# Altium footprint library BV100011_UniversalSlave.PcbLib: 72 footprints (part 2 of 5)
Each footprint in its own frame and in the unit in brackets; x right, y up, seen from the top. Pads: shape width x height; smd on the part's side, far side on the other; paste and mask are expansions set on the pad; w line width, h text height; cw(c..) or ccw(c..) is an arc to the next point about the centre after c.
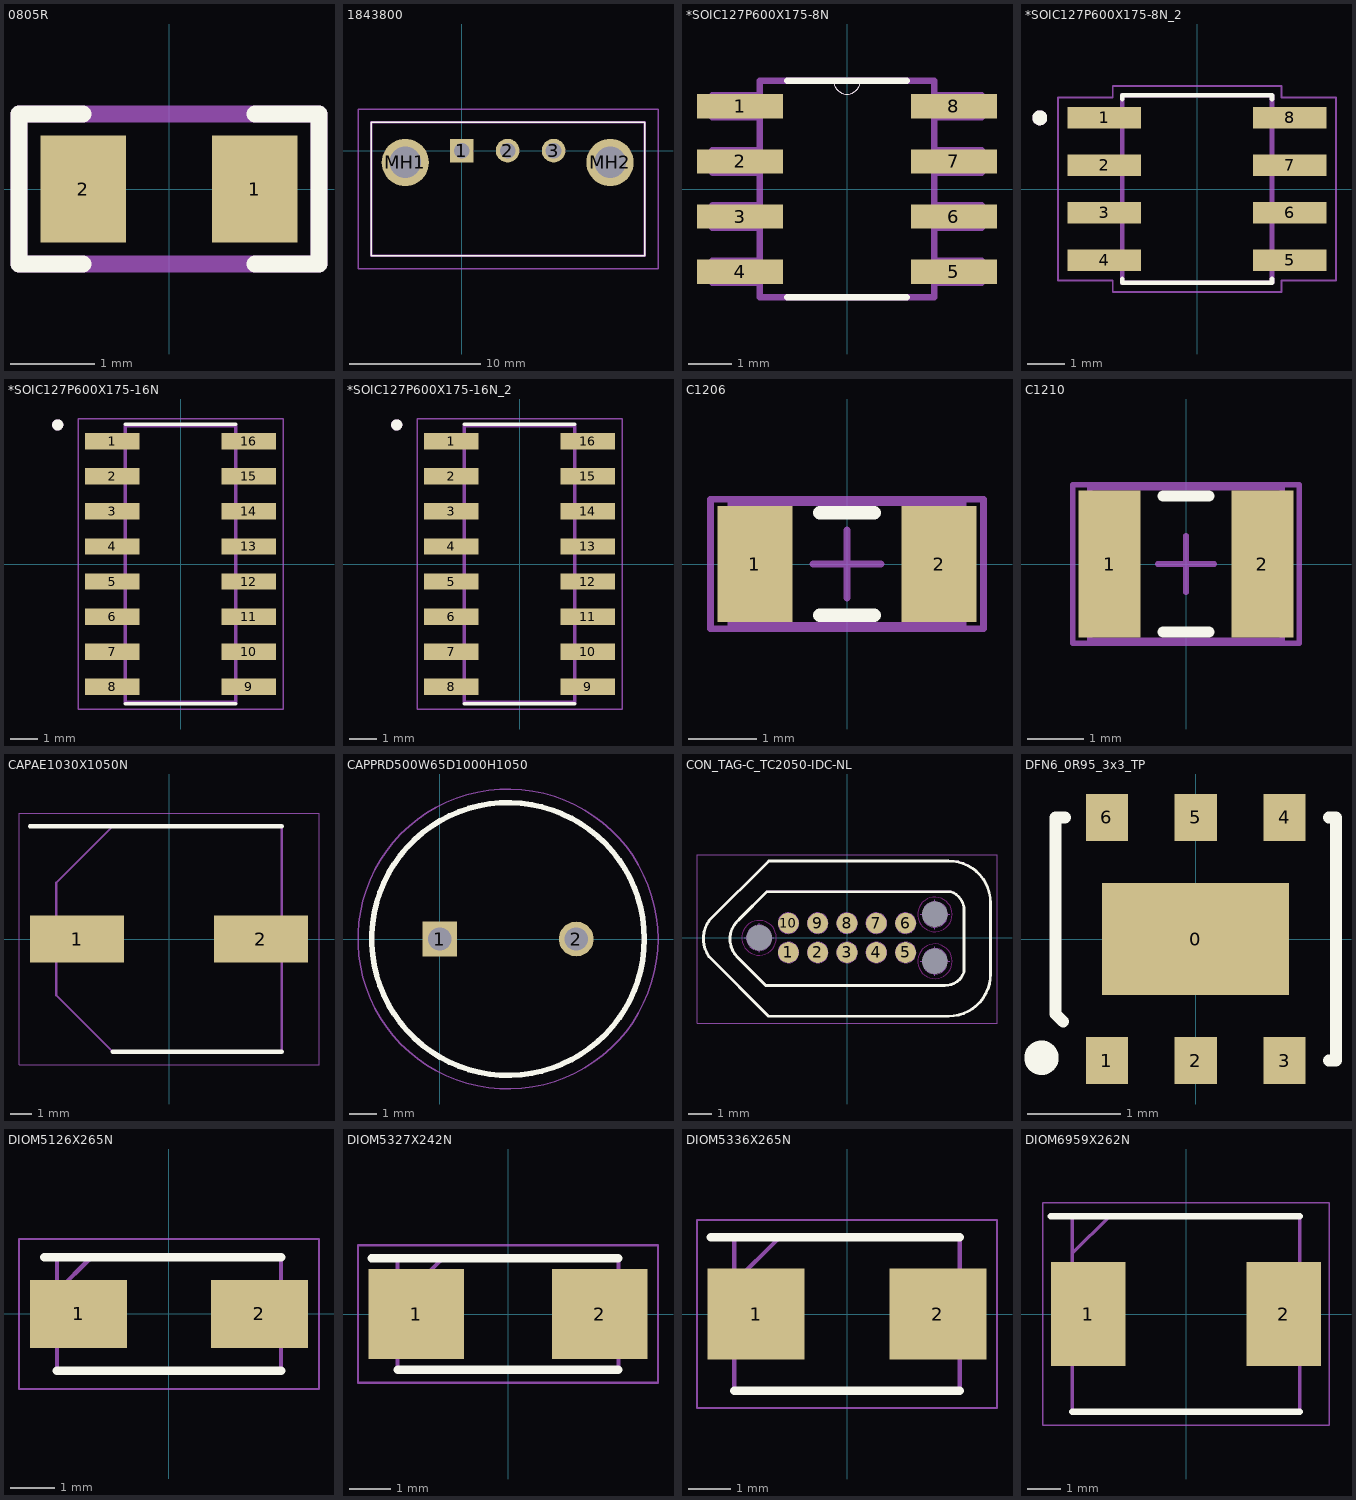
[diagram p1: the footprints below, top view; thin cyan lines are the x and y axes]

## 0805R [mil]
pads (2):
  rect 40x50 smd: 1(40,0) 2(-40,0)
Top Overlay:
  lines w7.87: -40,-35 -70,-35 -70,35 -40,35 ; 40,-35 70,-35 70,35 40,35
Mechanical 4:
  lines w7.87: -70,-35 70,-35 70,35 -70,35 -70,-35

## 1843800 [mm]
pads (5):
  rect 1.8x1.8 hole 1.2: 1(0,0)
  round 1.8 hole 1.2: 2(3.5,0) 3(7,0)
  round 3.6 hole 2.4: MH1(-4.3,-0.9) MH2(11.3,-0.9)
Top Overlay:
  lines w0.1: -6.9,-8 13.95,-8 13.95,2.16 -6.9,2.16 -6.9,-8
Mechanical 13:
  lines w0.2: -6.9,-8 13.95,-8 13.95,2.16 -6.9,2.16 -6.9,-8
Mechanical 15:
  lines w0.1: -7.9,-9 14.95,-9 14.95,3.16 -7.9,3.16 -7.9,-9
3D body "1843800.stp": height 7.5, standoff -5, extent -6.9,-8 13.95,2.16

## *SOIC127P600X175-8N [mil]
pads (8):
  rect 78x22 smd: 1(-97,75) 2(-97,25) 3(-97,-25) 4(-97,-75) 5(97,-75) 6(97,-25) 7(97,25) 8(97,75)
Top Overlay:
  lines w0: -12,98 ccw(c0,98) 12,98
  lines w6: -54,-98 54,-98 ; -54,98 -12,98 12,98 54,98
Mechanical 4:
  lines w0: -12,98 ccw(c0,98) 12,98 cw(c0,98) -12,98
  lines w6: -122,-85 -122,-65 ; -122,-85 -79,-85 ; -122,-85 -122,-65 ; -122,-85 -79,-85 ; -122,-65 -79,-65 ; -122,-65 -79,-65 ; -122,-35 -122,-15 ; -122,-35 -79,-35 ; -122,-35 -122,-15 ; -122,-35 -79,-35 ; -122,-15 -79,-15 ; -122,-15 -79,-15 ; -122,15 -122,35 ; -122,15 -79,15 ; -122,15 -122,35 ; -122,15 -79,15 ; -122,35 -79,35 ; -122,35 -79,35 ; -122,65 -122,85 ; -122,65 -79,65 ; -122,65 -122,85 ; -122,65 -79,65 ; -122,85 -79,85 ; -122,85 -79,85 ; -79,-98 79,-98 ; -79,-98 -79,98 ; -79,-98 79,-98 ; -79,-98 -79,98 ; -79,-85 -79,-65 ; -79,-85 -79,-65 ; -79,-35 -79,-15 ; -79,-35 -79,-15 ; -79,15 -79,35 ; -79,15 -79,35 ; -79,65 -79,85 ; -79,65 -79,85 ; -79,98 -12,98 ; -79,98 -12,98 ; -12,98 12,98 ; -12,98 12,98 ; 12,98 79,98 ; 12,98 79,98 ; 79,-98 79,98 ; 79,-98 79,98 ; 79,-85 79,-65 ; 79,-85 122,-85 ; 79,-85 79,-65 ; 79,-85 122,-85 ; 79,-65 122,-65 ; 79,-65 122,-65 ; 79,-35 79,-15 ; 79,-35 122,-35 ; 79,-35 79,-15 ; 79,-35 122,-35 ; 79,-15 122,-15 ; 79,-15 122,-15 ; 79,15 79,35 ; 79,15 122,15 ; 79,15 79,35 ; 79,15 122,15 ; 79,35 122,35 ; 79,35 122,35 ; 79,65 79,85 ; 79,65 122,65 ; 79,65 79,85 ; 79,65 122,65 ; 79,85 122,85 ; 79,85 122,85 ; 122,-85 122,-65 ; 122,-85 122,-65 ; 122,-35 122,-15 ; 122,-35 122,-15 ; 122,15 122,35 ; 122,15 122,35 ; 122,65 122,85 ; 122,65 122,85

## *SOIC127P600X175-8N_2 [mm]
pads (8):
  rect 1.97x0.57 smd: 1(-2.475,1.905) 2(-2.475,0.635) 3(-2.475,-0.635) 4(-2.475,-1.905) 5(2.475,-1.905) 6(2.475,-0.635) 7(2.475,0.635) 8(2.475,1.905)
Top Overlay:
  circle w0.2: c-4.2,1.9 r0.1
  lines w0.127: -2,-2.4 -2,-2.5 2,-2.5 2,-2.4 ; -2,2.4 -2,2.5 2,2.5 2,2.4
Mechanical 4:
  circle w0.2: c-4.2,1.9 r0.1
  circle w0.2: c-4.2,1.9 r0.1
  lines w0.127: -2,-2.5 2,-2.5 ; -2,-2.5 -2,2.5 ; -2,-2.5 2,-2.5 ; -2,-2.5 -2,2.5 ; -2,2.5 2,2.5 ; -2,2.5 2,2.5 ; 2,-2.5 2,2.5 ; 2,-2.5 2,2.5
Mechanical 16:
  lines w0.05: -3.71,-2.44 -3.71,2.44 -2.25,2.44 -2.25,2.75 2.25,2.75 2.25,2.44 3.71,2.44 3.71,-2.44 2.25,-2.44 2.25,-2.75 -2.25,-2.75 -2.25,-2.44 -3.71,-2.44

## *SOIC127P600X175-16N [mm]
pads (16):
  rect 1.97x0.59 smd: 1(-2.475,4.445) 2(-2.475,3.175) 3(-2.475,1.905) 4(-2.475,0.635) 5(-2.475,-0.635) 6(-2.475,-1.905) 7(-2.475,-3.175) 8(-2.475,-4.445) 9(2.475,-4.445) 10(2.475,-3.175) 11(2.475,-1.905) 12(2.475,-0.635) 13(2.475,0.635) 14(2.475,1.905) 15(2.475,3.175) 16(2.475,4.445)
Top Overlay:
  circle w0.2: c-4.445,5.035 r0.1
  lines w0.127: -2,-5.06 2,-5.06 ; -2,5.06 2,5.06
Mechanical 4:
  circle w0.2: c-4.445,5.035 r0.1
  circle w0.2: c-4.445,5.035 r0.1
  lines w0.127: -2,-5 -2,5 ; -2,-5 2,-5 ; -2,-5 -2,5 ; -2,-5 2,-5 ; -2,5 2,5 ; -2,5 2,5 ; 2,-5 2,5 ; 2,-5 2,5
Mechanical 16:
  lines w0.05: -3.71,-5.25 -3.71,5.25 3.71,5.25 3.71,-5.25 -3.71,-5.25

## *SOIC127P600X175-16N_2 [mm]
pads (16):
  rect 1.97x0.59 smd: 1(-2.475,4.445) 2(-2.475,3.175) 3(-2.475,1.905) 4(-2.475,0.635) 5(-2.475,-0.635) 6(-2.475,-1.905) 7(-2.475,-3.175) 8(-2.475,-4.445) 9(2.475,-4.445) 10(2.475,-3.175) 11(2.475,-1.905) 12(2.475,-0.635) 13(2.475,0.635) 14(2.475,1.905) 15(2.475,3.175) 16(2.475,4.445)
Top Overlay:
  circle w0.2: c-4.445,5.035 r0.1
  lines w0.127: -2,-5.06 2,-5.06 ; -2,5.06 2,5.06
Mechanical 4:
  circle w0.2: c-4.445,5.035 r0.1
  circle w0.2: c-4.445,5.035 r0.1
  lines w0.127: -2,-5 -2,5 ; -2,-5 2,-5 ; -2,-5 -2,5 ; -2,-5 2,-5 ; -2,5 2,5 ; -2,5 2,5 ; 2,-5 2,5 ; 2,-5 2,5
Mechanical 16:
  lines w0.05: -3.71,-5.25 -3.71,5.25 3.71,5.25 3.71,-5.25 -3.71,-5.25

## C1206 [mm]
pads (2):
  rect 1.1x1.7 smd: 1(-1.35,0) 2(1.35,0)
Top Overlay:
  lines w0.2: -0.4,-0.75 0.4,-0.75 ; -0.4,0.75 0.4,0.75
Mechanical 13:
  lines w0.1: -1.7,-0.9 1.7,-0.9 1.7,0.9 -1.7,0.9 -1.7,-0.9
Mechanical 15:
  lines w0.1: -0.5,0 0.5,0 ; 0,-0.5 0,0.5 ; -2,-0.95 2,-0.95 2,0.95 -2,0.95 -2,-0.95
3D body: height 1.3, standoff 0, extent -1.7,-0.9 1.7,0.9

## C1210 [mm]
pads (2):
  rect 1.1x2.6 smd: 1(-1.35,0) 2(1.35,0)
Top Overlay:
  lines w0.2: -0.4,-1.2 0.4,-1.2 ; -0.4,1.2 0.4,1.2
Mechanical 13:
  lines w0.1: -1.7,-1.35 1.7,-1.35 1.7,1.35 -1.7,1.35 -1.7,-1.35
Mechanical 15:
  lines w0.1: -0.5,0 0.5,0 ; 0,-0.5 0,0.5 ; -2,-1.4 2,-1.4 2,1.4 -2,1.4 -2,-1.4
3D body: height 1.3, standoff 0, extent -1.7,-1.35 1.7,1.35

## CAPAE1030X1050N [mm]
pads (2):
  rect 4.3x2.15 smd: 1(-4.2,0) 2(4.2,0)
Top Overlay:
  lines w0.2: -6.35,5.15 5.15,5.15 ; -2.575,-5.15 5.15,-5.15
Mechanical 13:
  lines w0.1: -5.15,-2.575 -2.575,-5.15 5.15,-5.15 5.15,5.15 -2.575,5.15 -5.15,2.575 -5.15,-2.575
Mechanical 15:
  lines w0.05: -6.85,-5.75 -6.85,5.75 6.85,5.75 6.85,-5.75 -6.85,-5.75
3D body "UUD1H221MNL1GS.stp": height 10.5, standoff 0, extent -5.65,-5.25 5.65,5.25

## CAPPRD500W65D1000H1050 [mm]
pads (2):
  rect 1.275x1.275 hole 0.85: 1(0,0)
  round 1.275 hole 0.85: 2(5,0)
Top Overlay:
  circle w0.2: c2.5,0 r5
Mechanical 13:
  circle w0.1: c2.5,0 r5
Mechanical 15:
  circle w0.05: c2.5,0 r5.5
3D body "EEH-AZF1H101.stp": height 10.5, standoff -10, extent -2.75,-5.247 7.75,5.247

## CON_TAG-C_TC2050-IDC-NL [mm]
pads (13):
  round 0.9 smd paste+0 mask+0.05: 1(-2.54,-0.635) 2(-1.27,-0.635) 3(0,-0.635) 4(1.27,-0.635) 5(2.54,-0.635) 6(2.54,0.635) 7(1.27,0.635) 8(0,0.635) 9(-1.27,0.635) 10(-2.54,0.635)
  round 0 hole 1.1 unplated mask+0.05: 11(-3.81,0) 12(3.81,-1.015) 13(3.81,1.015)
Top Overlay:
  lines w0.12: -4.67,0.796 ccw(c-3.972,-0.053) -4.755,-0.826 -3.52,-2.061 4.25,-2.061 ccw(c4.266,-1.213) 5.072,-1.476 ; -4.67,0.804 -3.473,2.001 4.491,2.001 cw(c4.227,1.195) 5.075,1.179 5.075,-1.474 ; -3.401,-3.396 -5.988,-0.81 cw(c-4.846,-0.04) -5.977,0.746 -3.388,3.335 ; -3.399,-3.394 4.41,-3.394 ccw(c4.405,-1.576) 6.223,-1.566 6.223,1.519 ccw(c4.405,1.514) 4.395,3.332 -3.386,3.332
Mechanical 14:
  circle w0.01: c-2.54,-0.635 r0.45
  circle w0.01: c-1.27,-0.635 r0.45
  circle w0.01: c0,-0.635 r0.45
  circle w0.01: c1.27,-0.635 r0.45
  circle w0.01: c2.54,-0.635 r0.45
  circle w0.01: c2.54,0.635 r0.45
  circle w0.01: c1.27,0.635 r0.45
  circle w0.01: c0,0.635 r0.45
  circle w0.01: c-1.27,0.635 r0.45
  circle w0.01: c-2.54,0.635 r0.45
  circle w0.01: c-3.81,0 r0.55
  circle w0.01: c3.81,1.015 r0.55
  circle w0.01: c3.81,-1.015 r0.55
  lines w0.01: -5.977,0.777 -5.977,0.777 ; -4.445,0 -3.175,0 ; -3.81,-0.635 -3.81,0.635 ; -3.475,1.999 -3.473,2.001 ; -3.401,-3.396 -3.399,-3.394 ; -3.388,3.335 -3.386,3.332 ; 3.175,-1.015 4.445,-1.015 ; 3.175,1.015 4.445,1.015 ; 3.81,-1.65 3.81,-0.38 ; 3.81,0.38 3.81,1.65 ; 4.392,3.335 4.395,3.332 ; 4.392,3.366 4.395,3.363 ; 5.072,-1.476 5.075,-1.474 ; -5.977,0.777 ccw(c-4.846,-0.009) -5.987,-0.779 -3.401,-3.365 -3.399,-3.363 4.41,-3.363 ccw(c4.405,-1.545) 6.223,-1.535 6.223,1.55 ccw(c4.405,1.545) 4.395,3.363 ; -5.977,0.777 -3.388,3.366 -3.386,3.363 4.395,3.363 ; -4.744,0.761 ccw(c-3.972,-0.023) -4.755,-0.795 -3.52,-2.03 4.25,-2.03 ccw(c4.266,-1.182) 5.072,-1.446 5.075,-1.443 5.075,1.21 ccw(c4.227,1.226) 4.491,2.032 -3.473,2.032 -3.475,2.03 -4.67,0.835 -4.744,0.761 ; -4.744,0.761 -4.744,0.761
  text "2" at -1.479,-0.928 h1
  text "3" at -0.209,-0.928 h1
  text "4" at 1,-0.95 h1
  text "5" at 2.35,-0.975 h1
  text "6" at 2.381,0.318 h1
  text "7" at 1.111,0.318 h1
  text "8" at -0.209,0.342 h1
  text "9" at -1.479,0.342 h1
  text "10" at -3.016,0.318 h1
  text "1" at -2.699,-0.953 h1
Mechanical 16:
  lines w0.01: -6.5,-3.7 -6.5,3.6 -3.4,3.6 6.5,3.6 6.5,-3.7 -6.5,-3.7
Multi-Layer keep-out:
  circle w0.01: c3.81,-1.015 r0.75
  circle w0.01: c3.81,1.015 r0.75
  circle w0.01: c-3.81,0 r0.75

## DFN6_0R95_3x3_TP [mm]
pads (7):
  rect 2x1.2 smd: 0(0,0)
  rect 0.45x0.5 smd: 1(-0.95,-1.3) 2(0,-1.3) 3(0.95,-1.3) 4(0.95,1.3) 5(0,1.3) 6(-0.95,1.3)
Top Overlay:
  circle w0.25: c-1.649,-1.27 r0.059
  lines w0.127: -1.417,-0.883 -1.5,-0.8 -1.5,1.3 -1.397,1.3 ; 1.422,-1.3 1.5,-1.3 1.5,1.3 1.422,1.3
3D body: height 1, standoff 0.05, extent -1.5,-1.5 1.5,1.5

## DIOM5126X265N [mm]
pads (2):
  rect 2.2x1.55 smd: 1(-2.05,0) 2(2.05,0)
Top Overlay:
  lines w0.2: -2.825,1.288 2.538,1.288 ; -2.538,-1.288 2.538,-1.288
Mechanical 13:
  lines w0.1: -2.538,0.512 -1.762,1.288 ; -2.538,-1.288 2.538,-1.288 2.538,1.288 -2.538,1.288 -2.538,-1.288
Mechanical 15:
  lines w0.05: -3.4,-1.7 3.4,-1.7 3.4,1.7 -3.4,1.7 -3.4,-1.7
3D body "STPS1H100A.stp": height 2.65, standoff 0, extent -2.537,-1.287 2.538,1.288

## DIOM5327X242N [mm]
pads (2):
  rect 2.3x2.15 smd: 1(-2.2,0) 2(2.2,0)
Top Overlay:
  lines w0.2: -3.275,1.335 2.648,1.335 ; -2.648,-1.335 2.648,-1.335
Mechanical 13:
  lines w0.1: -2.648,0.26 -1.572,1.335 ; -2.648,-1.335 -2.648,1.335 2.648,1.335 2.648,-1.335 -2.648,-1.335
Mechanical 15:
  lines w0.05: -3.6,-1.65 -3.6,1.65 3.6,1.65 3.6,-1.65 -3.6,-1.65
3D body "1N4007.stp": height 2.42, standoff 0, extent -2.648,-1.335 2.648,1.335

## DIOM5336X265N [mm]
pads (2):
  rect 2.3x2.15 smd: 1(-2.15,0) 2(2.15,0)
Top Overlay:
  lines w0.2: -3.225,1.812 2.67,1.812 ; -2.67,-1.812 2.67,-1.812
Mechanical 13:
  lines w0.1: -2.67,0.738 -1.595,1.812 ; -2.67,-1.812 -2.67,1.812 2.67,1.812 2.67,-1.812 -2.67,-1.812
Mechanical 15:
  lines w0.05: -3.55,-2.225 -3.55,2.225 3.55,2.225 3.55,-2.225 -3.55,-2.225
3D body "SMBJ33A.stp": height 2.65, standoff 0, extent -2.67,-1.812 2.67,1.813

## DIOM6959X262N [mm]
pads (2):
  rect 2.25x3.15 smd: 1(-2.95,0) 2(2.95,0)
Top Overlay:
  lines w0.2: -4.075,2.952 3.428,2.952 ; -3.428,-2.952 3.428,-2.952
Mechanical 13:
  lines w0.1: -3.428,1.828 -2.302,2.952 ; -3.428,-2.952 -3.428,2.952 3.428,2.952 3.428,-2.952 -3.428,-2.952
Mechanical 15:
  lines w0.05: -4.325,-3.36 -4.325,3.36 4.325,3.36 4.325,-3.36 -4.325,-3.36
3D body "SS34.stp": height 2.62, standoff 0, extent -3.427,-2.953 3.427,2.953